# Altium integrated library TJA1051T_3.IntLib: 1 symbol
Pins are listed as number, name and electrical type; pins without a type are passive.

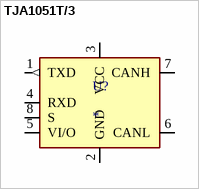
[diagram p0: symbol TJA1051T/3]

## TJA1051T/3
designator U?
1/1 Приемопередатчик Половина CANbus 8-SO; MF: NXP USA; MP: TJA1051T/3
footprint SOT96-1
pins: 1 TXD (out), 2 GND (io), 3 VCC (io), 4 RXD (io), 5 VI/O, 6 CANL (io), 7 CANH (io), 8 S (power)